# Altium schematic symbol library Schlib1.SchLib: 26 symbols
Pins are listed as number, name and electrical type; pins without a type are passive.

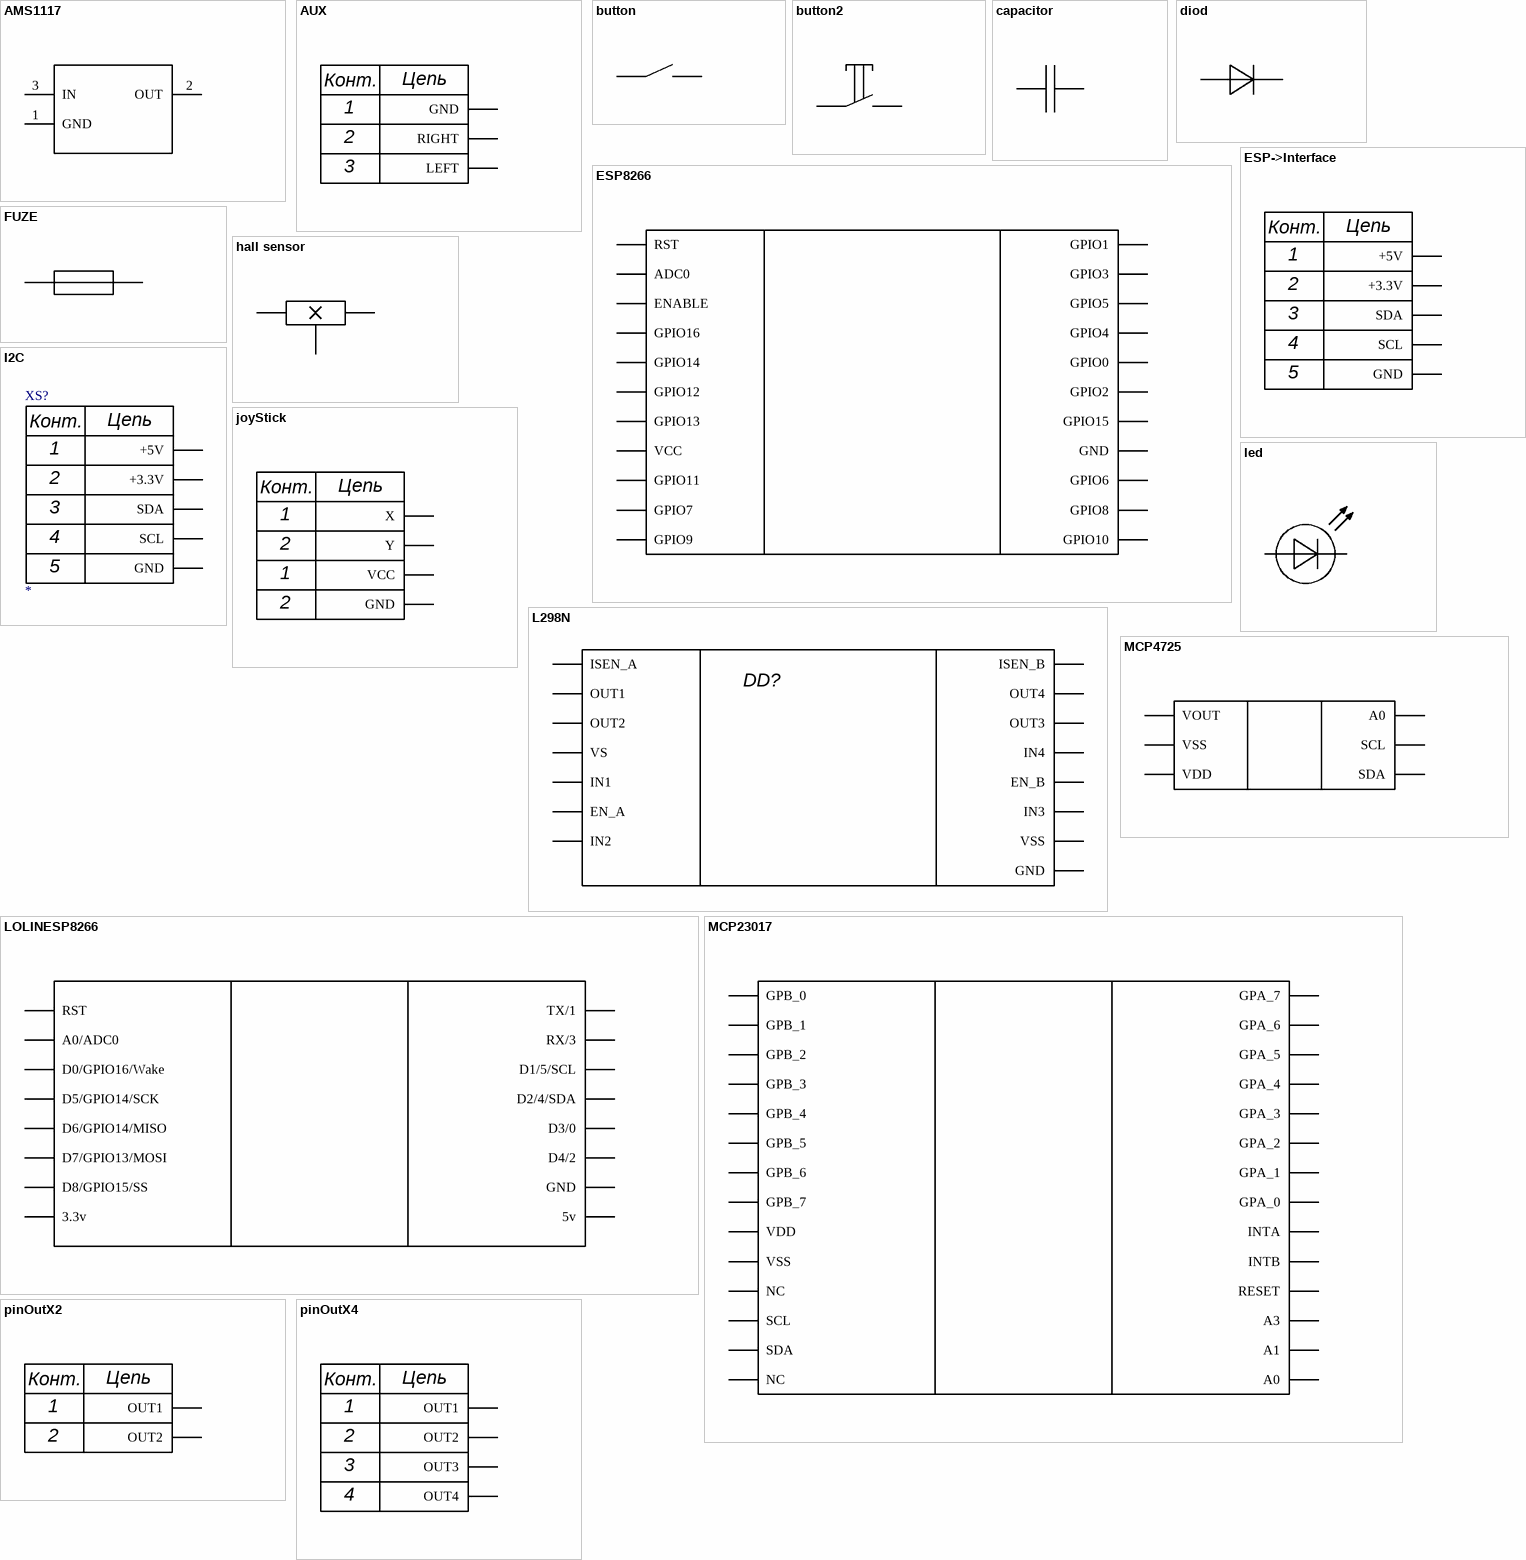
[diagram p0: symbols AMS1117 to pinOutX4]

## AMS1117
designator AD?
pins: 1 GND, 2 OUT, 3 IN

## AUX
designator XS?
pins: 1 GND, 2 RIGHT, 3 LEFT
text: Цепь; Конт.

## button
designator SB?
pins: 1, 2

## button2
designator SB?
pins: 1, 2

## capacitor
designator C?
pins: 1, 2

## diod
designator VD?
pins: 1 anode, 2 catode

## ESP8266
designator DD?
pins: 1 RST, 2 ADC0, 3 ENABLE, 4 GPIO16 "GPIO16/WAKE", 5 GPIO14 "GPIO14/SCLK", 6 GPIO12 "GPIO12/MISO", 7 GPIO13 "GPIO13/MOSI", 8 VCC, 9 GPIO11 "GPIO11/SDCMD", 10 GPIO7 "GPIO7/SDD0", 11 GPIO9 "GPIO9/SDD2", 12 GPIO10 "GPIO10/SDD3", 13 GPIO8 "GPIO8/SDD1", 14 GPIO6 "GPIO6/SDCLK", 15 GND, 16 GPIO15 "GPIO15/CS/TXD2", 17 GPIO2 "GPIO2/TXD1", 18 GPIO0 "GPIO0/FLASH", 19 GPIO4 "GPIO4/SDA", 20 GPIO5 "GPIO5/SCL", 21 GPIO3 "GPIO3/RXD0", 22 GPIO1 "GPIO1/TXD0"

## ESP->Interface
designator XS?
pins: 1 +5V, 2 +3.3V, 3 SDA, 4 SCL, 4 GND
text: Конт.; Цепь; 5

## FUZE
designator F?
pins: 1, 2

## hall sensor
designator DD?
pins: 1, 2, 3

## I2C
designator XS?
pins: 1 +5V, 2 +3.3V, 3 SDA, 4 SCL, 5 GND
text: Конт.; Цепь

## joyStick
designator XS?
pins: 1 X, 1 VCC, 2 Y, 2 GND
text: Цепь; Конт.

## L298N
designator DD?
pins: 1 ISEN_A, 2 OUT1, 3 OUT2, 4 VS "GPIO16/WAKE", 5 IN1 "GPIO14/SCLK", 6 EN_A "GPIO12/MISO", 7 IN2 "GPIO13/MOSI", 8 GND, 9 VSS "GPIO15/CS/TXD2", 10 IN3 "GPIO2/TXD1", 11 EN_B "GPIO0/FLASH", 12 IN4 "GPIO4/SDA", 13 OUT3 "GPIO5/SCL", 14 OUT4 "GPIO3/RXD0", 15 ISEN_B "GPIO1/TXD0"

## led
designator VD?
pins: 1 anode, 2 catode

## LOLINESP8266
designator DD?
pins: 1 RST, 2 A0/ADC0, 3 D0/GPIO16/Wake, 4 D5/GPIO14/SCK, 5 D6/GPIO14/MISO, 6 D7/GPIO13/MOSI, 7 D8/GPIO15/SS, 8 3.3v, 15 5v, 16 GND "GPIO15/CS/TXD2", 17 D4/2, 18 D3/0, 19 D2/4/SDA, 20 D1/5/SCL, 21 RX/3, 22 TX/1

## MCP4725
designator DA?
pins: 1 VOUT, 2 VSS, 3 VDD, 4 SDA, 5 SCL, 6 A0

## MCP23017
designator DD?
pins: 1 GPB_0, 2 GPB_1, 3 GPB_2, 4 GPB_3 "GPIO16/WAKE", 5 GPB_4 "GPIO14/SCLK", 6 GPB_5 "GPIO12/MISO", 7 GPB_6 "GPIO13/MOSI", 8 GPB_7, 9 VDD "GPIO11/SDCMD", 10 VSS "GPIO7/SDD0", 11 NC "GPIO9/SDD2", 12 SCL, 13 SDA, 14 NC, 15 A0, 16 A1, 17 A3, 18 RESET "GPIO10/SDD3", 19 INTB "GPIO8/SDD1", 20 INTA "GPIO6/SDCLK", 21 GPA_0, 22 GPA_1 "GPIO15/CS/TXD2", 23 GPA_2 "GPIO2/TXD1", 24 GPA_3 "GPIO0/FLASH", 25 GPA_4 "GPIO4/SDA", 26 GPA_5 "GPIO5/SCL", 27 GPA_6 "GPIO3/RXD0", 28 GPA_7 "GPIO1/TXD0"

## pinOutX2
designator XS?
pins: 1 OUT1, 2 OUT2
text: Цепь; Конт.

## pinOutX4
designator XS?
pins: 1 OUT1, 2 OUT2, 3 OUT3, 4 OUT4
text: Конт.; Цепь

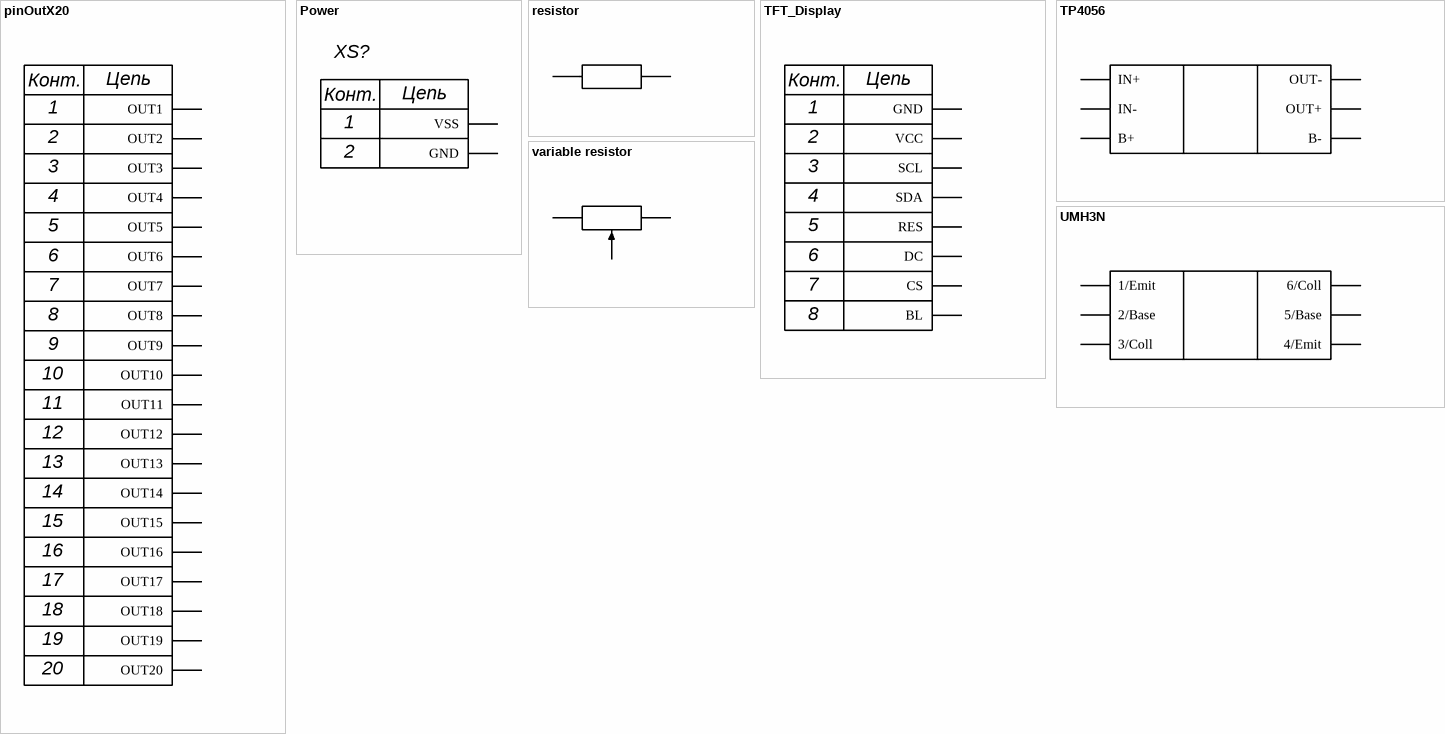
[diagram p1: symbols pinOutX20 to variable resistor]

## pinOutX20
designator XS?
pins: 1 OUT1, 2 OUT2, 3 OUT3, 4 OUT4, 5 OUT5, 6 OUT6, 7 OUT7, 8 OUT8, 9 OUT9, 10 OUT10, 11 OUT11, 12 OUT12, 13 OUT13, 14 OUT14, 15 OUT15, 16 OUT16, 17 OUT17, 18 OUT18, 19 OUT19, 20 OUT20
text: Конт.; Цепь

## Power
designator XS?
pins: 1 VSS, 2 GND
text: Конт.; Цепь

## resistor
designator R?
pins: 1, 2

## TFT_Display
designator XS?
pins: 1 GND, 2 VCC, 3 SCL, 4 SDA, 5 RES, 6 DC, 7 CS, 8 BL
text: Конт.; Цепь

## TP4056
designator DA?
pins: 1 IN+, 2 IN-, 3 B+, 4 B-, 5 OUT+, 6 OUT-

## UMH3N
designator DD?
pins: 1 1/Emit, 2 2/Base, 3 3/Coll, 4 4/Emit, 5 5/Base, 6 6/Coll

## variable resistor
designator R?
pins: 1, 2, 3